# Altium footprint library Footprints.PcbLib: 8 footprints
Each footprint in its own frame and in the unit in brackets; x right, y up, seen from the top. Pads: shape width x height; smd on the part's side, far side on the other; paste and mask are expansions set on the pad; w line width, h text height; cw(c..) or ccw(c..) is an arc to the next point about the centre after c.
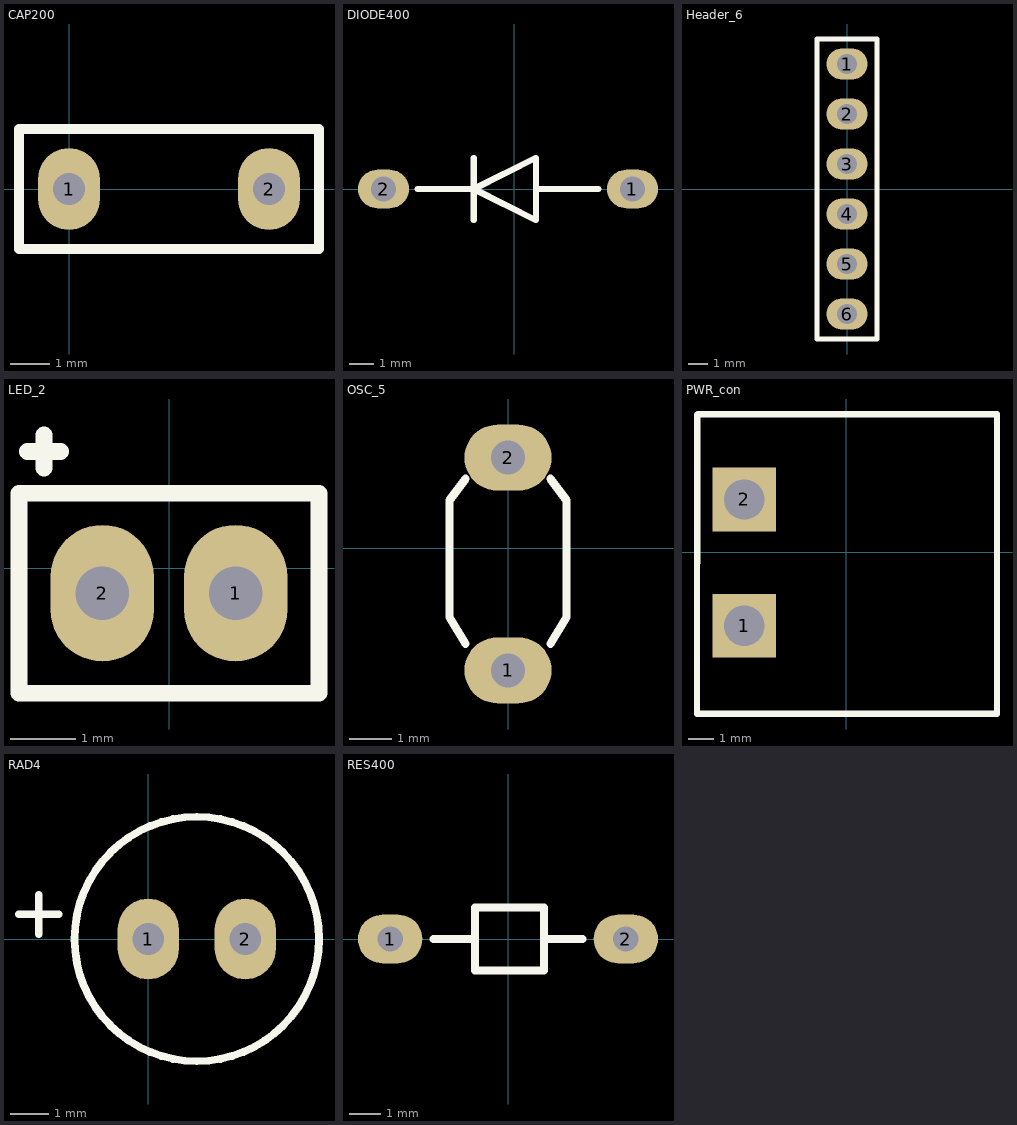
[diagram p0: the footprints below, top view; thin cyan lines are the x and y axes]

## CAP200 [mil]
height 270.08
pads (2):
  oval 62x82 hole 32: 1(0,0) 2(200,0)
Top Overlay:
  lines w10: -50,-60 250,-60 250,0 250,60 -50,60 -50,-60

## DIODE400 [mil]
pads (2):
  oval 82x62 hole 40: 1(190,0) 2(-210,0)
Top Overlay:
  lines w10: -155,0 -65,0 ; -65,-50 -65,50 ; 135,0 35,0 35,-50 ; -65,0 35,-50 ; -65,0 35,50 35,-50

## Header_6 [mil]
pads (6):
  oval 82x62 hole 39.37: 1(0,250) 2(0,150) 3(0,50) 4(0,-50) 5(0,-150) 6(0,-250)
Top Overlay:
  lines w10: -60,-300 60,-300 60,300 -60,300 -60,-300

## LED_2 [mil]
pads (2):
  oval 62x82 hole 32: 1(40,-15) 2(-40,-15)
Top Overlay:
  lines w10: -75,80 -75,60 -75,70 -85,70 -65,70 ; -90,-75 -90,-15 -90,45 90,45 90,-75 -90,-75
3D body "everlight-5MM-LED-BLUE.step": height 346.4, standoff -282.25, extent -105,-126.14 109.57,106.14

## OSC_5 [mil]
pads (2):
  oval 82x62 hole 32: 1(0,-115) 2(0,85)
Top Overlay:
  lines w7.87: -40,-90 -55,-65 -55,45 -40,65 ; 40,-90 55,-65 55,45 40,65
3D body "User Library-HP49US.step": height 137.8, standoff -157.48, extent -91.54,-240 91.54,206.85

## PWR_con [mil]
pads (2):
  rect 100x100 hole 62.99: 1(-160,-115) 2(-160,83)
Top Overlay:
  lines w9.84: -234,-253 236,-253 236,214
  lines w10: -234,-252 -233.52,216 ; -233,216.6 236,216.6
3D body "Connector2EDGR-5.08_2P.stp": height 343.58, standoff -132.8, extent -239,-256.4 233.53,222.34

## RAD4 [mil]
height 270.08
pads (2):
  oval 62x82 hole 32: 1(0,0) 2(98.43,0)
Top Overlay:
  circle w7.87: c49.21,0 r124.02
  lines w7.87: -131.18,25 -91.18,25 ; -111.18,5 -111.18,45

## RES400 [mil]
pads (2):
  oval 82x62 hole 32: 1(-150,0) 2(150,0)
Top Overlay:
  lines w10: -95,0 -42,0 ; 46,0 95,0 ; -42,0 -42,40 46,40 46,-40 -42,-40 -42,0